# Altium footprint library CAPACITORS.PcbLib: 24 footprints (part 1 of 2)
Each footprint in its own frame and in the unit in brackets; x right, y up, seen from the top. Pads: shape width x height; smd on the part's side, far side on the other; paste and mask are expansions set on the pad; w line width, h text height; cw(c..) or ccw(c..) is an arc to the next point about the centre after c.
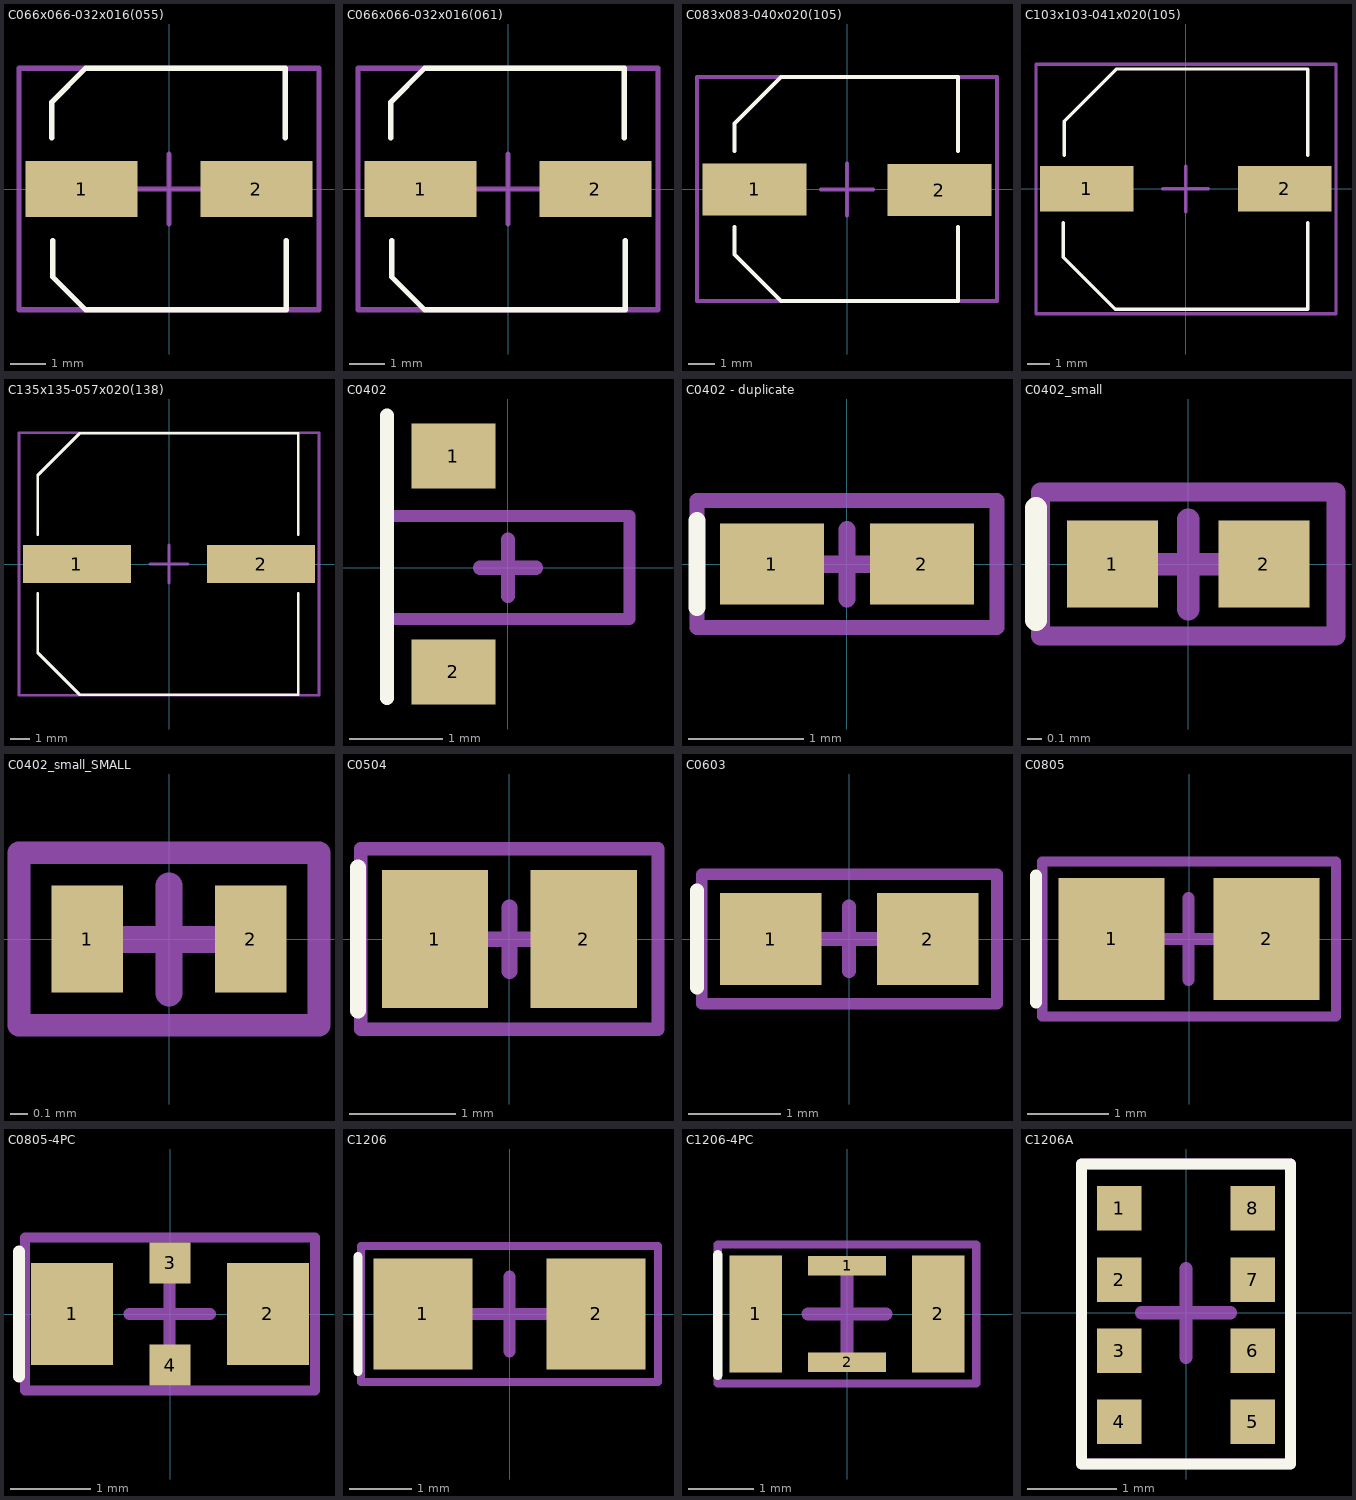
[diagram p0: the footprints below, top view; thin cyan lines are the x and y axes]

## C066x066-032x016(055) [mm]
height 5.5
pads (2):
  rect 3.2x1.6 smd: 1(-2.5,0) 2(2.5,0)
Top Overlay:
  lines w0.15: -3.353,1.467 -3.353,2.489 -2.388,3.454 3.327,3.454 3.327,1.467 ; -3.327,-1.479 -3.327,-2.515 -2.388,-3.454 3.353,-3.454 3.353,-1.479
Top Assembly:
  lines w0.15: -4.293,-3.454 -4.293,3.454 4.293,3.454 4.293,-3.454 -4.293,-3.454
  text ".Designator" at 0.66,-2.616 h1.6
Top Component Center:
  lines w0.15: -1,0 1,0 ; 0,-1 0,1
3D body "C066x066-032x016(055).step": height 5.36, standoff -0.3, extent -3.797,-3.396 3.803,3.403

## C066x066-032x016(061) [mm]
pads (2):
  rect 3.2x1.6 smd: 1(-2.5,0) 2(2.5,0)
Top Overlay:
  lines w0.15: -3.353,1.467 -3.353,2.489 -2.388,3.454 3.327,3.454 3.327,1.467 ; -3.327,-1.479 -3.327,-2.515 -2.388,-3.454 3.353,-3.454 3.353,-1.479
Top Assembly:
  lines w0.15: -4.293,-3.454 -4.293,3.454 4.293,3.454 4.293,-3.454 -4.293,-3.454
  text ".Designator" at 0.66,-2.616 h1.6
Top Component Center:
  lines w0.15: -1,0 1,0 ; 0,-1 0,1
3D body "C066x066-032x016(061).STEP": height 5.8, standoff 0, extent -3.65,-3.3 3.65,3.3

## C083x083-040x020(105) [mm]
pads (2):
  rect 4x2 smd: 1(-3.55,0) 2(3.55,-0.025)
Top Overlay:
  lines w0.15: -4.318,-1.448 -4.318,-2.506 -2.54,-4.284 4.267,-4.284 4.267,-1.448 ; -4.318,1.482 -4.318,2.54 -2.54,4.318 4.267,4.318 4.267,1.482
Top Assembly:
  lines w0.15: -5.766,-4.284 -5.766,4.318 5.766,4.318 5.766,-4.284 -5.766,-4.284
  text ".Designator" at 1.016,-3.556 h2
Top Component Center:
  lines w0.15: -1,0 1,0 ; 0,-1 0,1
3D body "C083x083-040x020(105).STEP": height 10.2, standoff 0, extent -4.85,-4.15 4.85,4.15

## C103x103-041x020(105) [mm]
pads (2):
  rect 4.1x2 smd: 1(-4.35,0) 2(4.35,0)
Top Overlay:
  lines w0.15: -5.385,-1.479 -5.385,-3.003 -3.094,-5.294 5.359,-5.294 5.359,-1.479 ; -5.334,1.467 -5.334,2.966 -3.031,5.268 5.359,5.268 5.359,1.467
Top Assembly:
  lines w0.15: -6.579,-5.493 -6.579,5.48 6.604,5.48 6.604,-5.493 -6.579,-5.493
  text ".Designator" at 0.635,-4.07 h2
Top Component Center:
  lines w0.15: -1,0 1,0 ; 0,-1 0,1
3D body: height 1.27, standoff 0, extent -3.975,5.144 -3.975,5.144
3D body: height 1.27, standoff 0, extent -3.975,5.144 -3.975,5.144
3D body: height 1.27, standoff 0, extent -3.975,5.144 -3.975,5.144
3D body "C105x105-040x020(105).stp": height 10.2, standoff 0, extent -5.85,-5.156 5.85,5.144

## C135x135-057x020(138) [mm]
pads (2):
  rect 5.7x2 smd: 1(-4.85,0) 2(4.85,0)
Top Overlay:
  lines w0.15: -6.909,-1.549 -6.909,-4.674 -4.699,-6.883 6.807,-6.883 6.807,-1.549 ; -6.909,1.549 -6.909,4.674 -4.699,6.883 6.807,6.883 6.807,1.549
Top Assembly:
  lines w0.15: -7.899,-6.909 -7.899,6.909 7.899,6.909 7.899,-6.909 -7.899,-6.909
  text ".Designator" at 1.016,-3.378 h2
Top Component Center:
  lines w0.15: -1,0 1,0 ; 0,-1 0,1
3D body "C135x135-057x020(125).STEP": height 13.5, standoff 0, extent -7.45,-6.75 7.45,6.75

## C0402 [mm]
pads (2):
  rect 0.9x0.7 smd: 1(-0.584,1.194) 2(-0.584,-1.118)
Top Overlay:
  lines w0.15: -1.295,-1.397 -1.295,1.626
Top Assembly:
  lines w0.127: -1.3,-0.55 -1.3,0.55 1.3,0.55 1.3,-0.55 -1.3,-0.55
  text ".Designator" at -1.041,-0.203 h0.5
Top Component Center:
  lines w0.15: -0.3,-0.002 0.3,-0.002 ; 0,-0.302 0,0.298
3D body: height 0.6, standoff 0, extent 0.25,-0.3 0.55,0.3
3D body: height 0.6, standoff 0, extent -0.55,-0.3 -0.25,0.3
3D body: height 0.59, standoff 0, extent -0.525,-0.288 0.525,0.288

## C0402 - duplicate [mm]
pads (2):
  rect 0.9x0.7 smd: 1(-0.65,0) 2(0.65,0)
Top Overlay:
  lines w0.15: -1.299,-0.375 -1.299,0.375
Top Assembly:
  lines w0.127: -1.3,-0.55 1.3,-0.55 1.3,0.55 -1.3,0.55 -1.3,-0.55
  text ".Designator" at -1.041,-0.203 h0.5
Top Component Center:
  lines w0.15: -0.3,-0.002 0.3,-0.002 ; 0,-0.302 0,0.298
3D body: height 0.59, standoff 0, extent -0.525,-0.288 0.525,0.288
3D body: height 0.6, standoff 0, extent -0.55,-0.3 -0.25,0.3
3D body: height 0.6, standoff 0, extent 0.25,-0.3 0.55,0.3

## C0402_small [mm]
pads (2):
  rect 0.61x0.584 smd: 1(-0.508,0) 2(0.508,0)
Top Overlay:
  lines w0.15: -1.02,-0.375 -1.02,0.375
Top Assembly:
  lines w0.127: -0.991,-0.483 -0.991,0.483 0.991,0.483 0.991,-0.483 -0.991,-0.483
  text ".Designator" at -0.762,-0.178 h0.4
Top Component Center:
  lines w0.15: -0.3,-0.002 0.3,-0.002 ; 0,-0.302 0,0.298
3D body: height 0.6, standoff 0, extent 0.25,-0.3 0.55,0.3
3D body: height 0.6, standoff 0, extent -0.55,-0.3 -0.25,0.3
3D body: height 0.59, standoff 0, extent -0.525,-0.288 0.525,0.288

## C0402_small_SMALL [mm]
pads (2):
  rect 0.4x0.6 smd: 1(-0.457,0) 2(0.457,0)
Top Assembly:
  lines w0.127: -0.838,-0.483 -0.838,0.483 0.838,0.483 0.838,-0.483 -0.838,-0.483
  text ".Designator" at -0.508,-0.203 h0.4
Top Component Center:
  lines w0.15: -0.3,-0.002 0.3,-0.002 ; 0,-0.302 0,0.298
3D body: height 0.6, standoff 0, extent 0.25,-0.3 0.55,0.3
3D body: height 0.6, standoff 0, extent -0.55,-0.3 -0.25,0.3
3D body: height 0.59, standoff 0, extent -0.525,-0.288 0.525,0.288

## C0504 [mm]
pads (2):
  rect 1x1.3 smd: 1(-0.7,0) 2(0.7,0)
Top Overlay:
  lines w0.15: -1.425,-0.675 -1.425,0.675
Top Assembly:
  lines w0.127: -1.4,-0.85 1.4,-0.85 1.4,0.85 -1.4,0.85 -1.4,-0.85
  text ".Designator" at -0.875,-0.35 h0.7
Top Component Center:
  lines w0.15: -0.3,-0.002 0.3,-0.002 ; 0,-0.302 0,0.298
3D body: height 1.01, standoff 0, extent -0.525,-0.612 0.525,0.613
3D body: height 1.02, standoff 0, extent -0.65,-0.625 -0.275,0.625
3D body: height 1.02, standoff 0, extent 0.275,-0.625 0.65,0.625

## C0603 [mm]
pads (2):
  rect 1.1x1 smd: 1(-0.85,0) 2(0.85,0)
Top Overlay:
  lines w0.15: -1.65,-0.525 -1.65,0.525
Top Assembly:
  lines w0.127: -1.6,-0.7 1.6,-0.7 1.6,0.7 -1.6,0.7 -1.6,-0.7
  text ".Designator" at -1.05,-0.4 h0.8
Top Component Center:
  lines w0.15: -0.352,0 0.348,0 ; -0.004,-0.35 -0.004,0.35
3D body: height 0.84, standoff 0, extent -0.825,-0.463 0.825,0.463
3D body: height 0.85, standoff 0, extent -0.85,-0.475 -0.35,0.475
3D body: height 0.85, standoff 0, extent 0.35,-0.475 0.85,0.475

## C0805 [mm]
pads (2):
  rect 1.3x1.5 smd: 1(-0.95,0) 2(0.95,0)
Top Overlay:
  lines w0.15: -1.875,-0.775 -1.875,0.775
Top Assembly:
  lines w0.127: -1.8,-0.95 -1.8,0.95 1.8,0.95 1.8,-0.95 -1.8,-0.95
  text ".Designator" at -1.45,-0.55 h1.2
Top Component Center:
  lines w0.15: -0.502,0 0.498,0 ; -0.006,-0.499 -0.006,0.501
3D body: height 1.1, standoff 0, extent 0.35,-0.7 1.1,0.7
3D body: height 1.09, standoff 0, extent -1.05,-0.687 1.05,0.687
3D body: height 1.1, standoff 0, extent -1.1,-0.7 -0.35,0.7

## C0805-4PC [mm]
pads (4):
  rect 1.02x1.27 smd: 1(-1.215,0) 2(1.215,0)
  rect 0.51x0.51 smd: 3(0,0.635) 4(0,-0.635)
Top Overlay:
  lines w0.15: -1.875,-0.775 -1.875,0.775
Top Assembly:
  lines w0.127: -1.8,-0.95 1.8,-0.95 1.8,0.95 -1.8,0.95 -1.8,-0.95
  text ".Designator" at -1.45,-0.55 h1.2
Top Component Center:
  lines w0.15: -0.502,0 0.498,0 ; -0.006,-0.499 -0.006,0.501
3D body: height 1.1, standoff 0, extent -1.1,-0.7 -0.35,0.7
3D body: height 1.09, standoff 0, extent -1.05,-0.687 1.05,0.687
3D body: height 1.1, standoff 0, extent 0.35,-0.7 1.1,0.7

## C1206 [mm]
pads (2):
  rect 1.6x1.8 smd: 1(-1.4,0) 2(1.4,0)
Top Overlay:
  lines w0.15: -2.45,-0.925 -2.45,0.925
Top Assembly:
  lines w0.127: -2.4,-1.1 2.4,-1.1 2.4,1.1 -2.4,1.1 -2.4,-1.1
  text ".Designator" at -1.775,-0.75 h1.5
Top Component Center:
  lines w0.2: -0.6,0 0.6,0 ; 0,-0.6 0,0.6
3D body: height 1.35, standoff 0, extent -1.675,-0.875 -0.925,0.875
3D body: height 1.34, standoff 0, extent -1.65,-0.862 1.65,0.862
3D body: height 1.35, standoff 0, extent 0.925,-0.875 1.675,0.875

## C1206-4PC [mm]
pads (4):
  rect 0.8x1.8 smd: 1(-1.4,0) 2(1.4,0)
  rect 1.2x0.3 smd: 1(0,0.737) 2(0,-0.737)
Top Overlay:
  lines w0.15: -1.981,-0.94 -1.981,0.91
Top Assembly:
  lines w0.127: -1.981,-1.067 -1.981,1.067 1.981,1.067 1.981,-1.067 -1.981,-1.067
  text ".Designator" at -1.575,-0.533 h1
Top Component Center:
  lines w0.2: -0.6,0 0.6,0 ; 0,-0.6 0,0.6
3D body: height 1.27, standoff 0, extent -0.506,-0.816 0.507,-0.657
3D body: height 1.27, standoff 0, extent -0.506,0.658 0.507,0.816
3D body: height 1.27, standoff 0, extent -1.597,-0.813 -1.197,0.824
3D body: height 1.27, standoff 0, extent 1.194,-0.818 1.594,0.819
3D body: height 1.27, standoff 0, extent -1.572,-0.8 1.572,0.8

## C1206A [mm]
pads (8):
  rect 0.5x0.5 smd paste-0.025: 1(-0.75,1.175) 2(-0.75,0.375) 3(-0.75,-0.425) 4(-0.75,-1.225) 5(0.75,-1.225) 6(0.75,-0.425) 7(0.75,0.375) 8(0.75,1.175)
Top Overlay:
  lines w0.127: -1.175,-1.7 1.175,-1.7 1.175,1.675 -1.175,1.675 -1.175,-1.7
Top Assembly:
  lines w0.127: -1.175,-1.7 -1.175,1.675 1.175,1.675 1.175,-1.7 -1.175,-1.7
  text ".Designator" at 0.35,-1.275 h0.8
Top Component Center:
  lines w0.15: -0.5,0 0.5,0 ; 0,-0.5 0,0.5
3D body: height 0.76, standoff 0, extent 0.5,-1.475 0.638,-0.975
3D body: height 0.76, standoff 0, extent 0.5,-0.675 0.638,-0.175
3D body: height 0.76, standoff 0, extent 0.5,0.125 0.638,0.625
3D body: height 0.76, standoff 0, extent 0.5,0.925 0.638,1.425
3D body: height 0.76, standoff 0, extent -0.637,0.925 -0.5,1.425
3D body: height 0.76, standoff 0, extent -0.637,0.125 -0.5,0.625
3D body: height 0.76, standoff 0, extent -0.637,-0.675 -0.5,-0.175
3D body: height 0.75, standoff 0, extent -0.625,-1.625 0.625,1.575
3D body: height 0.76, standoff 0, extent -0.637,-1.475 -0.5,-0.975